# Altium footprint library 44-LQFP.PcbLib: 1 footprints
Each footprint in its own frame and in the unit in brackets; x right, y up, seen from the top. Pads: shape width x height; smd on the part's side, far side on the other; paste and mask are expansions set on the pad; w line width, h text height; cw(c..) or ccw(c..) is an arc to the next point about the centre after c.
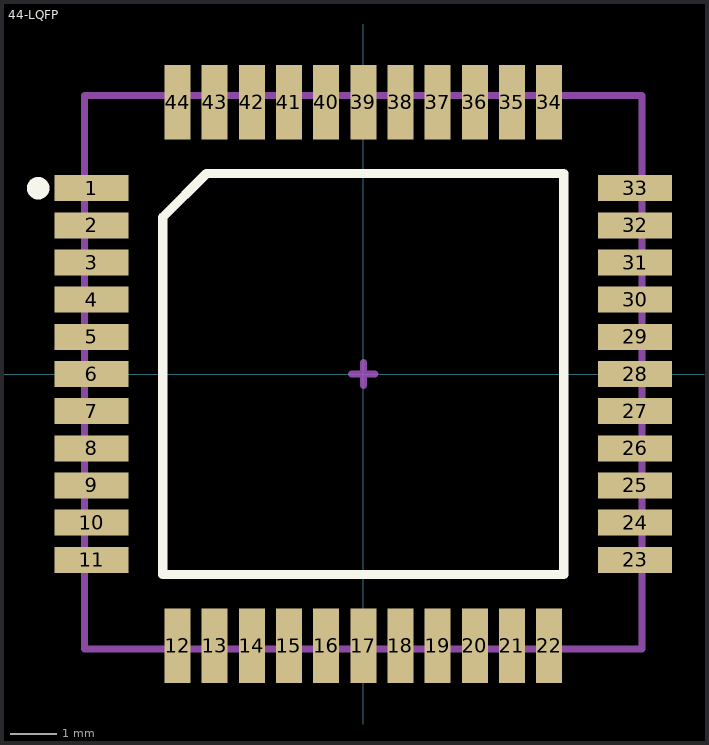
[diagram p0: the footprint, top view; thin cyan lines are the x and y axes]

## 44-LQFP [mm]
pads (44):
  rect 1.6x0.56 smd mask+0.051: 1(-5.85,4) 2(-5.85,3.2) 3(-5.85,2.4) 4(-5.85,1.6) 5(-5.85,0.8) 6(-5.85,0) 7(-5.85,-0.8) 8(-5.85,-1.6) 9(-5.85,-2.4) 10(-5.85,-3.2) 11(-5.85,-4) 23(5.85,-4) 24(5.85,-3.2) 25(5.85,-2.4) 26(5.85,-1.6) 27(5.85,-0.8) 28(5.85,0) 29(5.85,0.8) 30(5.85,1.6) 31(5.85,2.4) 32(5.85,3.2) 33(5.85,4)
  rect 0.56x1.6 smd mask+0.051: 12(-4,-5.85) 13(-3.2,-5.85) 14(-2.4,-5.85) 15(-1.6,-5.85) 16(-0.8,-5.85) 17(0,-5.85) 18(0.8,-5.85) 19(1.6,-5.85) 20(2.4,-5.85) 21(3.2,-5.85) 22(4,-5.85) 34(4,5.85) 35(3.2,5.85) 36(2.4,5.85) 37(1.6,5.85) 38(0.8,5.85) 39(0,5.85) 40(-0.8,5.85) 41(-1.6,5.85) 42(-2.4,5.85) 43(-3.2,5.85) 44(-4,5.85)
Top Overlay:
  circle w0.381: c-7,4 r0.051
  lines w0.2: -4.318,-4.318 -4.318,3.377 -3.377,4.318 4.318,4.318 4.318,-4.318 -4.318,-4.318
Mechanical 13:
  lines w0.15: -6,-5.925 -6,6 6,6 6,-5.925 -6,-5.925
Mechanical 15:
  lines w0.15: -0.25,0 0,0 ; 0,0 0,-0.25 0,0 ; 0,0 0.25,0 0,0 ; 0,0 0,0.25 0,0
3D body "TMC2660C-PA.step": height 1.6, standoff 0, extent -5.994,-5.994 5.994,5.994